# Altium schematic symbol library 50474C.SchLib: 1 symbol
Pins are listed as number, name and electrical type; pins without a type are passive.

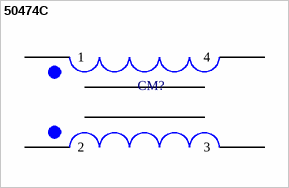
[diagram p0: symbol 50474C]

## 50474C
designator CM?  (value not drawn)
PartNumber: 50475C; Manufacturer: Murata; PartDescription: CMC 4.7MH 400MA 2LN SMD; Supplier 1: Digi-Key; Supplier Part Number 1: 811-1185-1-ND; Package Type: 4 SMT
pins: 1, 2, 3, 4